# Altium footprint library Capacitors THD.PcbLib: 270 footprints (part 12 of 17)
Each footprint in its own frame and in the unit in brackets; x right, y up, seen from the top. Pads: shape width x height; smd on the part's side, far side on the other; paste and mask are expansions set on the pad; w line width, h text height; cw(c..) or ccw(c..) is an arc to the next point about the centre after c.
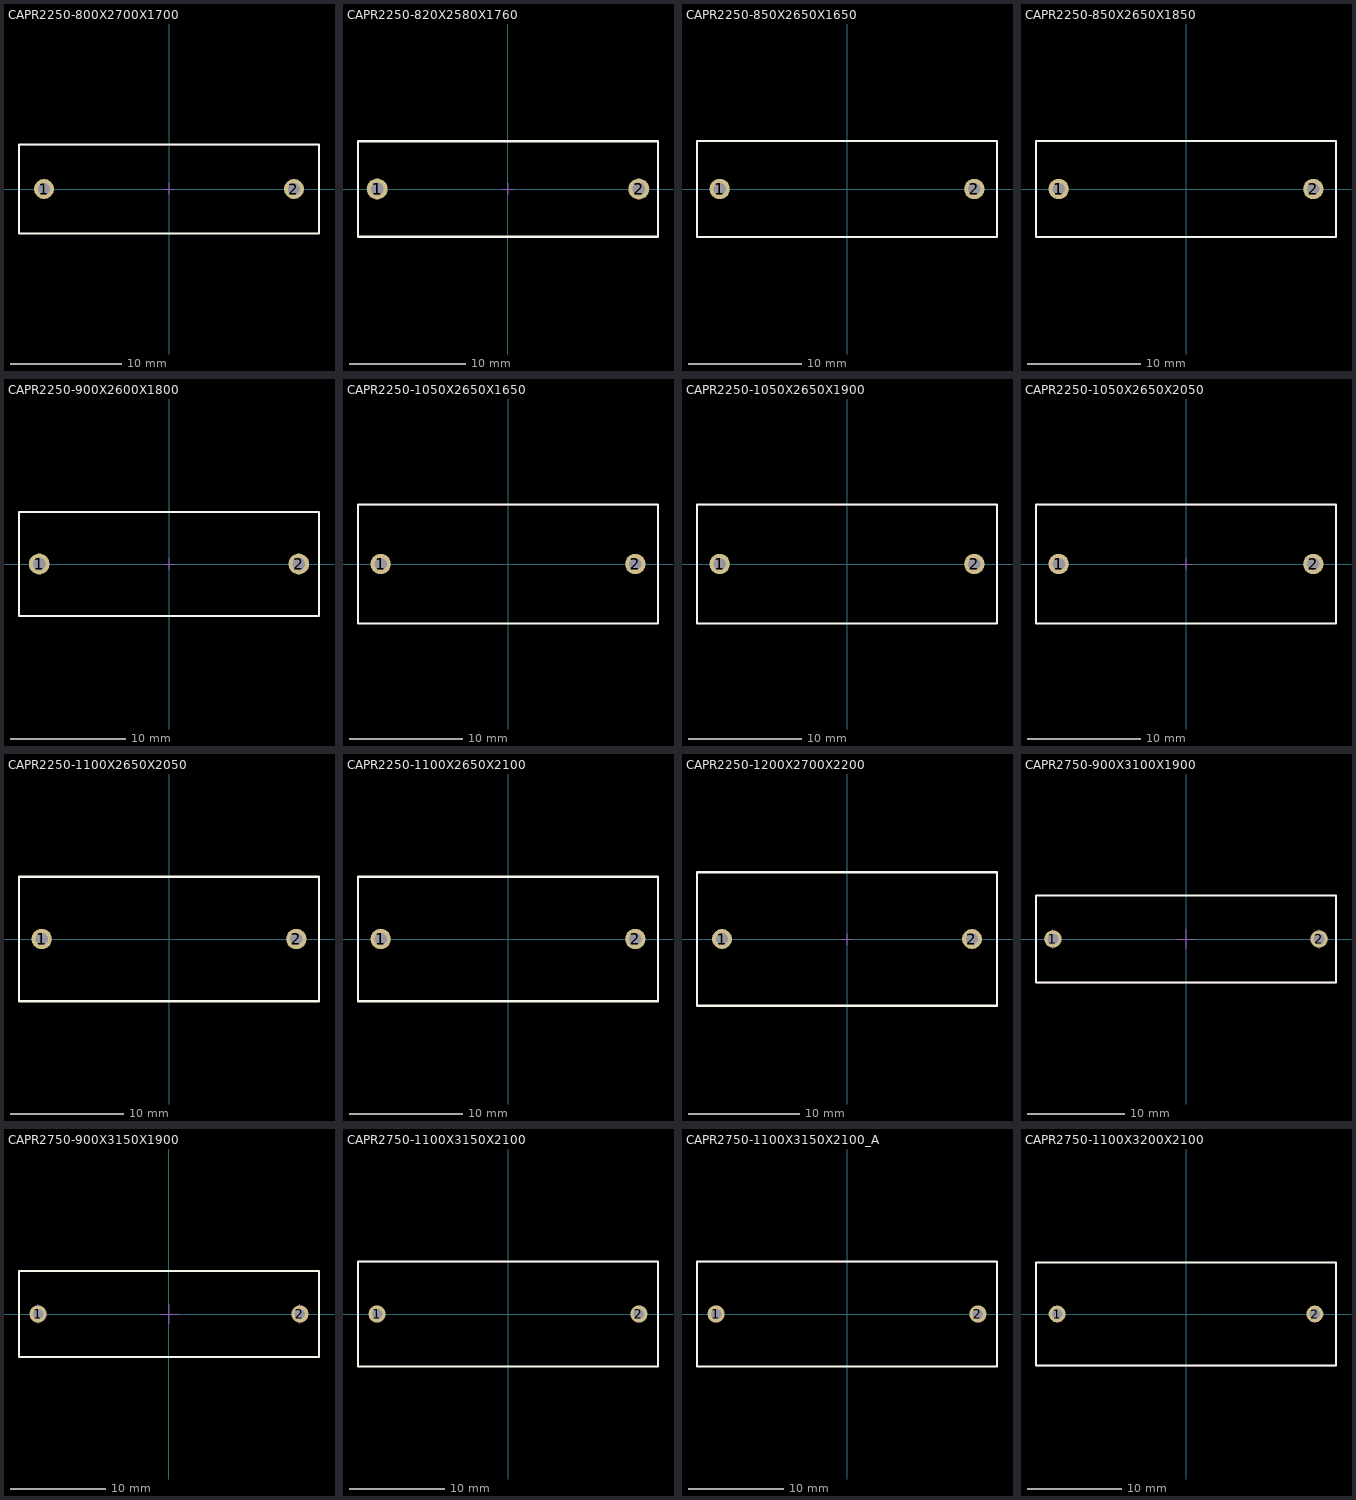
[diagram p11: the footprints below, top view; thin cyan lines are the x and y axes]

## CAPR2250-800X2700X1700 [mm] "Capacitor Radial, Pin spacing 22.5mm - Body Width 8mm X Body Length 27mm X Body Height 17mm"
height 17
pads (2):
  round 1.8 hole 1.1: 1(-11.25,0) 2(11.25,0)
Top Overlay:
  lines w0.2: -13.5,-4 13.5,-4 13.5,4 -13.5,4 -13.5,-4
Mechanical 8:
  lines w0.1: -11.75,0 -11.25,0 ; -11.25,-0.5 -11.25,0 ; -11.25,0.5 -11.25,0 ; -10.75,0 -11.25,0 ; -0.5,0 0,0 ; 0,-0.5 0,0 ; 0,0.5 0,0 ; 0.5,0 0,0 ; 10.75,0 11.25,0 ; 11.25,-0.5 11.25,0 ; 11.25,0.5 11.25,0 ; 11.75,0 11.25,0
Mechanical 14:
  lines w0.1: -13.5,-4 13.5,-4 13.5,4 -13.5,4 -13.5,-4
3D body "CAPR2250-800X2700X1700.stp": height 17, standoff -3.8, extent -13.5,-4 13.5,4

## CAPR2250-820X2580X1760 [mm] "Capacitor Radial, Pin spacing 22.5mm - Body With 8.2mm X Body Length 25.8mm X Body Height 17.6mm"
height 17.6
pads (2):
  round 1.8 hole 1.1: 1(-11.25,0) 2(11.25,0)
Top Overlay:
  lines w0.2: -12.9,-4.1 12.9,-4.1 12.9,4.1 -12.9,4.1 -12.9,-4.1
Mechanical 8:
  lines w0.05: -11.75,0 -11.25,0 ; -11.25,-0.5 -11.25,0 ; -11.25,0.5 -11.25,0 ; -10.75,0 -11.25,0 ; -0.5,0 0,0 ; 0,-0.5 0,0 ; 0,0.5 0,0 ; 0.5,0 0,0 ; 10.75,0 11.25,0 ; 11.25,-0.5 11.25,0 ; 11.25,0.5 11.25,0 ; 11.75,0 11.25,0
Mechanical 14:
  lines w0.1: -12.9,-4.1 12.9,-4.1 12.9,4.1 -12.9,4.1 -12.9,-4.1
3D body "CAPR2250-820X2580X1610.stp": height 16.1, standoff -3.8, extent -12.899,-4.099 12.901,4.101

## CAPR2250-850X2650X1650 [mm] "Capacitor Radial, Pin spacing 22.5mm - Body With 8.5mm X Body Length 26.5mm X Body Height 16.5mm"
height 16.5
pads (2):
  round 1.8 hole 1.1: 1(-11.25,0) 2(11.25,0)
Top Overlay:
  lines w0.2: -13.25,-4.25 13.25,-4.25 13.25,4.25 -13.25,4.25 -13.25,-4.25
Mechanical 13:
  lines w0.1: -13.25,-4.25 -13.25,4.25 13.25,4.25 13.25,-4.25 -13.25,-4.25
Mechanical 14:
  lines w0.1: -13.25,-4.25 13.25,-4.25 13.25,4.25 -13.25,4.25 -13.25,-4.25
3D body "CAPR2250-850X2650X1650.stp": height 16.5, standoff -3.8, extent -13.25,-4.25 13.25,4.25

## CAPR2250-850X2650X1850 [mm] "Capacitor Radial, Pin spacing 22.5mm - Body With 8.5mm X Body Length 26.5mm X Body Height 18.5mm"
height 18.5
pads (2):
  round 1.8 hole 1.1: 1(-11.25,0) 2(11.25,0)
Top Overlay:
  lines w0.2: -13.25,-4.25 13.25,-4.25 13.25,4.25 -13.25,4.25 -13.25,-4.25
Mechanical 13:
  lines w0.1: -13.25,-4.25 -13.25,4.25 13.25,4.25 13.25,-4.25 -13.25,-4.25
Mechanical 14:
  lines w0.1: -13.25,-4.25 13.25,-4.25 13.25,4.25 -13.25,4.25 -13.25,-4.25
3D body "CAPR2250-850X2650X1850.stp": height 18.5, standoff -3.8, extent -13.249,-4.249 13.251,4.251

## CAPR2250-900X2600X1800 [mm] "Capacitor Radial, Pin spacing 22.5mm - Body With 9mm X Body Length 26mm X Body Height 18mm"
height 18
pads (2):
  round 1.8 hole 1.1: 1(-11.25,0) 2(11.25,0)
Top Overlay:
  lines w0.2: -13,-4.5 -13,4.5 13,4.5 13,-4.5 -13,-4.5
Mechanical 8:
  lines w0.1: -11.75,0 -11.25,0 ; -11.25,-0.5 -11.25,0 ; -11.25,0.5 -11.25,0 ; -10.75,0 -11.25,0 ; -0.5,0 0,0 ; 0,-0.5 0,0 ; 0,0.5 0,0 ; 0.5,0 0,0 ; 10.75,0 11.25,0 ; 11.25,-0.5 11.25,0 ; 11.25,0.5 11.25,0 ; 11.75,0 11.25,0
Mechanical 14:
  lines w0.1: -13,-4.5 -13,4.5 13,4.5 13,-4.5 -13,-4.5
3D body "CAPR2250-900X2600X1800.stp": height 18, standoff -3.5, extent -13,-4.5 13,4.5

## CAPR2250-1050X2650X1650 [mm] "Capacitor Radial, Pin spacing 22.5mm - Body With 10.5mm X Body Length 26.5mm X Body Height 16.5mm"
height 16.5
pads (2):
  round 1.8 hole 1.1: 1(-11.25,0) 2(11.25,0)
Top Overlay:
  lines w0.2: -13.25,-5.25 -13.25,5.25 13.25,5.25 13.25,-5.25 -13.25,-5.25
Mechanical 13:
  lines w0.1: -13.25,-5.25 13.25,-5.25 13.25,5.25 -13.25,5.25 -13.25,-5.25
Mechanical 14:
  lines w0.1: -13.25,-5.25 -13.25,5.25 13.25,5.25 13.25,-5.25 -13.25,-5.25
3D body "CAPR2250-1050X2650X1650.stp": height 16.5, standoff -3.8, extent -13.249,-5.249 13.251,5.251

## CAPR2250-1050X2650X1900 [mm] "Capacitor Radial, Pin spacing 22.5mm - Body With 10.5mm X Body Length 26.5mm X Body Height 19mm"
height 19
pads (2):
  round 1.8 hole 1.1: 1(-11.25,0) 2(11.25,0)
Top Overlay:
  lines w0.2: -13.25,-5.25 -13.25,5.25 13.25,5.25 13.25,-5.25 -13.25,-5.25
Mechanical 13:
  lines w0.1: -13.25,-5.25 13.25,-5.25 13.25,5.25 -13.25,5.25 -13.25,-5.25
Mechanical 14:
  lines w0.1: -13.25,-5.25 -13.25,5.25 13.25,5.25 13.25,-5.25 -13.25,-5.25
3D body "CAPR2250-1050X2650X1900.stp": height 19, standoff -3.8, extent -13.249,-5.249 13.251,5.251

## CAPR2250-1050X2650X2050 [mm] "Capacitor Radial, Pin spacing 22.5mm - Body With 10.5mm X Body Length 26.5mm X Body Height 20.5mm"
height 20.5
pads (2):
  round 1.8 hole 1.1: 1(-11.25,0) 2(11.25,0)
Top Overlay:
  lines w0.2: -13.25,-5.25 13.25,-5.25 13.25,5.25 -13.25,5.25 -13.25,-5.25
Mechanical 8:
  lines w0.1: -11.75,0 -11.25,0 ; -11.25,-0.5 -11.25,0 ; -11.25,0.5 -11.25,0 ; -10.75,0 -11.25,0 ; -0.5,0 0,0 ; 0,-0.5 0,0 ; 0,0.5 0,0 ; 0.5,0 0,0 ; 10.75,0 11.25,0 ; 11.25,-0.5 11.25,0 ; 11.25,0.5 11.25,0 ; 11.75,0 11.25,0
Mechanical 14:
  lines w0.1: -13.25,-5.25 -13.25,5.25 13.25,5.25 13.25,-5.25 -13.25,-5.25
3D body "CAPR2250-1050X2650X2050.stp": height 20.5, standoff -3.8, extent -13.25,-5.25 13.25,5.25

## CAPR2250-1100X2650X2050 [mm] "Capacitor Radial, Pin spacing 22.5mm - Body With 11mm X Body Length 26.5mm X Body Height 20.5mm"
height 20.5
pads (2):
  round 1.8 hole 1.1: 1(-11.25,0) 2(11.25,0)
Top Overlay:
  lines w0.2: -13.25,-5.5 13.25,-5.5 13.25,5.5 -13.25,5.5 -13.25,-5.5
Mechanical 13:
  lines w0.1: -13.25,-5.5 -13.25,5.5 13.25,5.5 13.25,-5.5 -13.25,-5.5
Mechanical 14:
  lines w0.1: -13.25,-5.5 13.25,-5.5 13.25,5.5 -13.25,5.5 -13.25,-5.5
3D body "CAPR2250-1100X2650X2050.stp": height 20.5, standoff -3.8, extent -13.249,-5.499 13.251,5.501

## CAPR2250-1100X2650X2100 [mm] "Capacitor Radial, Pin spacing 22.5mm - Body With 11mm X Body Length 26.5mm X Body Height 21mm"
height 21
pads (2):
  round 1.8 hole 1.1: 1(-11.25,0) 2(11.25,0)
Top Overlay:
  lines w0.2: -13.25,-5.5 -13.25,5.5 13.25,5.5 13.25,-5.5 -13.25,-5.5
Mechanical 13:
  lines w0.1: -13.25,-5.5 13.25,-5.5 13.25,5.5 -13.25,5.5 -13.25,-5.5
Mechanical 14:
  lines w0.1: -13.25,-5.5 -13.25,5.5 13.25,5.5 13.25,-5.5 -13.25,-5.5
3D body "CAPR2250-1100X2650X2100.stp": height 21, standoff -3.8, extent -13.249,-5.499 13.251,5.501

## CAPR2250-1200X2700X2200 [mm] "Capacitor Radial, Pin spacing 22.5mm - Body With 12mm X Body Length 27mm X Body Height 22mm"
height 22
pads (2):
  round 1.8 hole 1.1: 1(-11.25,0) 2(11.25,0)
Top Overlay:
  lines w0.2: -13.5,-6 13.5,-6 13.5,6 -13.5,6 -13.5,-6
Mechanical 8:
  lines w0.1: -11.75,0 -11.25,0 ; -11.25,-0.5 -11.25,0 ; -11.25,0.5 -11.25,0 ; -10.75,0 -11.25,0 ; -0.5,0 0,0 ; 0,-0.5 0,0 ; 0,0.5 0,0 ; 0.5,0 0,0 ; 10.75,0 11.25,0 ; 11.25,-0.5 11.25,0 ; 11.25,0.5 11.25,0 ; 11.75,0 11.25,0
Mechanical 14:
  lines w0.1: -13.5,-6 13.5,-6 13.5,6 -13.5,6 -13.5,-6
3D body "CAPR2250-1200X2700X2200.stp": height 22, standoff -3.8, extent -13.5,-6 13.5,6

## CAPR2750-900X3100X1900 [mm] "Capacitor Radial, Pin spacing 27.5mm - Body Width 9mm X Body Length 31mm X Body Height 19mm"
height 19
pads (2):
  round 1.8 hole 1.1: 1(-13.75,0) 2(13.75,0)
Top Overlay:
  lines w0.2: -15.5,-4.5 15.5,-4.5 15.5,4.5 -15.5,4.5 -15.5,-4.5
Mechanical 8:
  lines w0.1: -14.75,0 -13.75,0 ; -13.75,-1 -13.75,0 ; -13.75,1 -13.75,0 ; -12.75,0 -13.75,0 ; -1,0 0,0 ; 0,-1 0,0 ; 0,1 0,0 ; 1,0 0,0 ; 12.75,0 13.75,0 ; 13.75,-1 13.75,0 ; 13.75,1 13.75,0 ; 14.75,0 13.75,0
Mechanical 14:
  lines w0.1: -15.5,-4.5 15.5,-4.5 15.5,4.5 -15.5,4.5 -15.5,-4.5
3D body "CAPR2750-900X3100X1900.stp": height 19, standoff -3.8, extent -15.5,-4.5 15.5,4.5

## CAPR2750-900X3150X1900 [mm] "Capacitor Radial, Pin spacing 27.5mm - Body Width 9mm X Body Length 31.5mm X Body Height 19mm"
height 19
pads (2):
  round 1.8 hole 1.1: 1(-13.75,0) 2(13.75,0)
Top Overlay:
  lines w0.2: -15.75,-4.5 15.75,-4.5 15.75,4.5 -15.75,4.5 -15.75,-4.5
Mechanical 8:
  lines w0.1: -14.75,0 -13.75,0 ; -13.75,-1 -13.75,0 ; -13.75,1 -13.75,0 ; -12.75,0 -13.75,0 ; -1,0 0,0 ; 0,-1 0,0 ; 0,1 0,0 ; 1,0 0,0 ; 12.75,0 13.75,0 ; 13.75,-1 13.75,0 ; 13.75,1 13.75,0 ; 14.75,0 13.75,0
Mechanical 14:
  lines w0.1: -15.75,-4.5 15.75,-4.5 15.75,4.5 -15.75,4.5 -15.75,-4.5
3D body "CAPR2750-900X3150X1900.stp": height 19, standoff -3.8, extent -15.75,-4.5 15.75,4.5

## CAPR2750-1100X3150X2100 [mm] "Capacitor Radial, Pin spacing 27.5mm - Body With 11mm X Body Length 31.5mm X Body Height 21mm"
height 21
pads (2):
  round 1.8 hole 1.1: 1(-13.75,0) 2(13.75,0)
Top Overlay:
  lines w0.2: -15.75,-5.5 15.75,-5.5 15.75,5.5 -15.75,5.5 -15.75,-5.5
Mechanical 13:
  lines w0.1: -15.75,-5.5 -15.75,5.5 15.75,5.5 15.75,-5.5 -15.75,-5.5
Mechanical 14:
  lines w0.1: -15.75,-5.5 15.75,-5.5 15.75,5.5 -15.75,5.5 -15.75,-5.5
3D body "CAPR2750-1100X3150X2100.stp": height 21, standoff -3.8, extent -15.749,-5.499 15.751,5.501

## CAPR2750-1100X3150X2100_A [mm] "Capacitor Radial, Pin spacing 27.5mm - Body With 11mm X Body Length 31.5mm X Body Height 21mm"
height 21
pads (2):
  round 1.8 hole 1.1: 1(-13.75,0) 2(13.75,0)
Top Overlay:
  lines w0.2: -15.75,-5.5 -15.75,5.5 15.75,5.5 15.75,-5.5 -15.75,-5.5
Mechanical 13:
  lines w0.1: -15.75,-5.5 15.75,-5.5 15.75,5.5 -15.75,5.5 -15.75,-5.5
Mechanical 14:
  lines w0.1: -15.75,-5.5 -15.75,5.5 15.75,5.5 15.75,-5.5 -15.75,-5.5
3D body "CAPR2750-1100X3150X2100_A.stp": height 21, standoff -3.8, extent -15.75,-5.5 15.75,5.5

## CAPR2750-1100X3200X2100 [mm] "Capacitor Radial, Pin spacing 27.5mm - Body With 11mm X Body Length 32mm X Body Height 21mm"
height 21
pads (2):
  round 1.8 hole 1.1: 1(-13.75,0) 2(13.75,0)
Top Overlay:
  lines w0.2: -16,-5.5 -16,5.5 16,5.5 16,-5.5 -16,-5.5
Mechanical 13:
  lines w0.1: -16,-5.5 16,-5.5 16,5.5 -16,5.5 -16,-5.5
Mechanical 14:
  lines w0.1: -16,-5.5 -16,5.5 16,5.5 16,-5.5 -16,-5.5
3D body "CAPR2750-1100X3200X2100.stp": height 21, standoff -3.8, extent -15.999,-5.499 16.001,5.501